# Altium integrated library resistor array.IntLib: 1 symbol
Pins are listed as number, name and electrical type; pins without a type are passive.

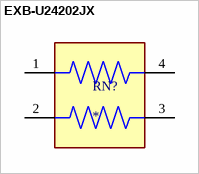
[diagram p0: symbol EXB-U24202JX]

## EXB-U24202JX
designator RN?
Series/Type: Anti-Sulfurated Chip Resistor Array, Power Rating (W): 0.063, Chip Size (LxW) (mm): 1.0 X 1.0, Resistance Values (â„¦): 2000, Resistance Tolerance (%): 5, Terminal Pitch (mm): 0.65, Type of Circuit: Isolated Circuit, Number of Elements (piece; MF: Panasonic; MP: EXB-U24202JX; SnapEDA_Link: https://www.snapeda.com/parts/EXB-U24202JX/Panasonic/view-part/?ref=snap; Package: NON STANDARD-4 Panasonic; Value: *; Check_prices: https://www.snapeda.com/parts/EXB-U24202JX/Panasonic/view-part/?ref=eda
footprint RESCAXE_EXB-U24202JX
pins: 1, 2, 3, 4